# Altium schematic symbol library Schlib1.SchLib: 25 symbols
Pins are listed as number, name and electrical type; pins without a type are passive.

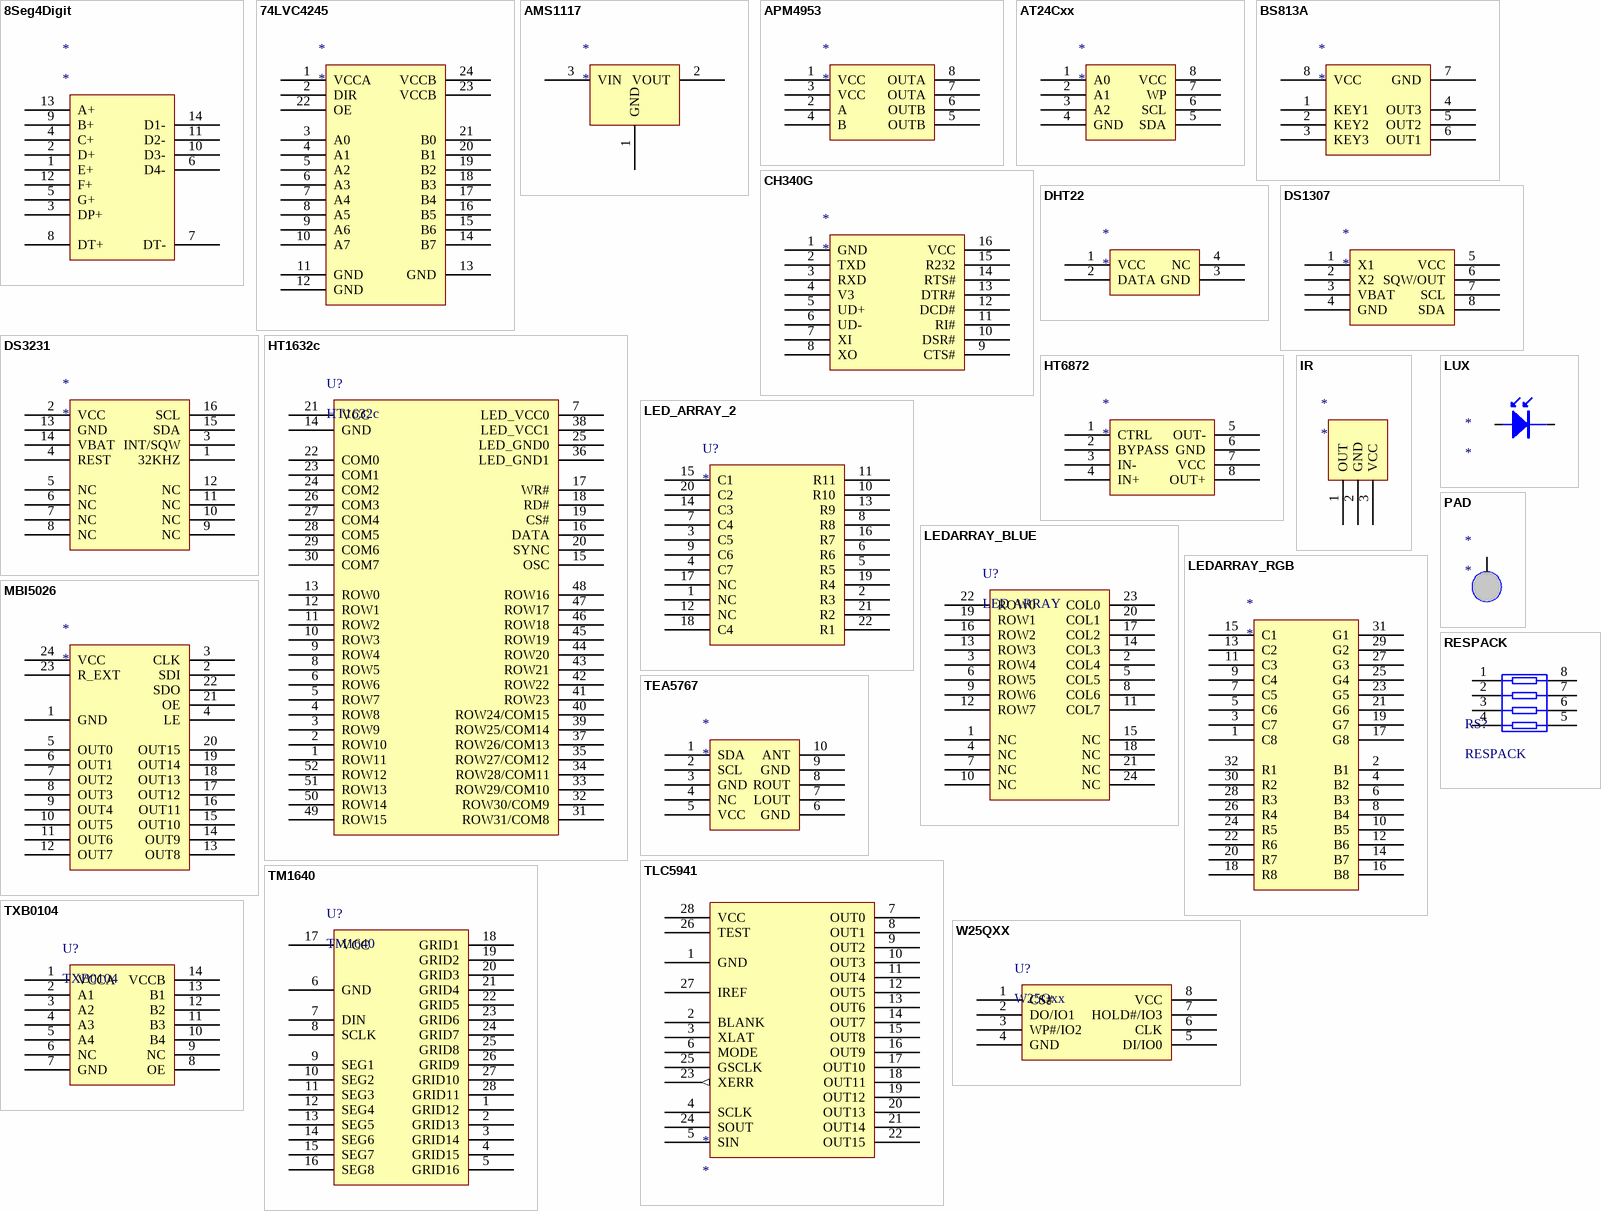
[diagram p0: symbols 8Seg4Digit to W25QXX]

## 8Seg4Digit
designator *
pins: 1 E+, 2 D+, 3 DP+, 4 C+, 5 G+, 6 D4-, 7 DT-, 8 DT+, 9 B+, 10 D3-, 11 D2-, 12 F+, 13 A+, 14 D1-

## 74LVC4245
designator *
pins: 1 VCCA, 2 DIR, 3 A0, 4 A1, 5 A2, 6 A3, 7 A4, 8 A5, 9 A6, 10 A7, 11 GND, 12 GND, 13 GND, 14 B7, 15 B6, 16 B5, 17 B4, 18 B3, 19 B2, 20 B1, 21 B0, 22 OE, 23 VCCB, 24 VCCB

## AMS1117
designator *
pins: 1 GND, 2 VOUT, 3 VIN

## APM4953
designator *
pins: 1 VCC, 2 A, 3 VCC, 4 B, 5 OUTB, 6 OUTB, 7 OUTA, 8 OUTA

## AT24Cxx
designator *
pins: 1 A0, 2 A1, 3 A2, 4 GND, 5 SDA, 6 SCL, 7 WP, 8 VCC

## BS813A
designator *
pins: 1 KEY1, 2 KEY2, 3 KEY3, 4 OUT3, 5 OUT2, 6 OUT1, 7 GND, 8 VCC

## CH340G
designator *
pins: 1 GND, 2 TXD, 3 RXD, 4 V3, 5 UD+, 6 UD-, 7 XI, 8 XO, 9 CTS#, 10 DSR#, 11 RI#, 12 DCD#, 13 DTR#, 14 RTS#, 15 R232, 16 VCC

## DHT22
designator *
pins: 1 VCC, 2 DATA, 3 GND, 4 NC

## DS1307
designator *
pins: 1 X1, 2 X2, 3 VBAT, 4 GND, 5 VCC, 6 SQW/OUT, 7 SCL, 8 SDA

## DS3231
designator *
pins: 1 32KHZ, 2 VCC, 3 INT/SQW, 4 REST, 5 NC, 6 NC, 7 NC, 8 NC, 9 NC, 10 NC, 11 NC, 12 NC, 13 GND, 14 VBAT, 15 SDA, 16 SCL

## HT1632c
designator U?
pins: 1 ROW11, 2 ROW10, 3 ROW9, 4 ROW8, 5 ROW7, 6 ROW6, 7 LED_VCC0, 8 ROW5, 9 ROW4, 10 ROW3, 11 ROW2, 12 ROW1, 13 ROW0, 14 GND, 15 OSC, 16 DATA, 17 WR#, 18 RD#, 19 CS#, 20 SYNC, 21 VCC, 22 COM0, 23 COM1, 24 COM2, 25 LED_GND0, 26 COM3, 27 COM4, 28 COM5, 29 COM6, 30 COM7, 31 ROW31/COM8, 32 ROW30/COM9, 33 ROW29/COM10, 34 ROW28/COM11, 35 ROW27/COM12, 36 LED_GND1, 37 ROW26/COM13, 38 LED_VCC1, 39 ROW25/COM14, 40 ROW24/COM15, 41 ROW23, 42 ROW22, 43 ROW21, 44 ROW20, 45 ROW19, 46 ROW18, 47 ROW17, 48 ROW16, 49 ROW15, 50 ROW14, 51 ROW13, 52 ROW12

## HT6872
designator *
pins: 1 CTRL, 2 BYPASS, 3 IN-, 4 IN+, 5 OUT-, 6 GND, 7 VCC, 8 OUT+

## IR
designator *
pins: 1 OUT, 2 GND, 3 VCC

## LED_ARRAY_2
designator U?
白色7x11共阳点阵
pins: 1 NC, 2 R3, 3 C5, 4 C7, 5 R5, 6 R6, 7 C4, 8 R8, 9 C6, 10 R10, 11 R11, 12 NC, 13 R9, 14 C3, 15 C1, 16 R7, 17 NC, 18 C4, 19 R4, 20 C2, 21 R2, 22 R1

## LEDARRAY_BLUE
designator U?, comment LED ARRAY
pins: 1 NC, 2 COL4, 3 ROW4, 4 NC, 5 COL5, 6 ROW5, 7 NC, 8 COL6, 9 ROW6, 10 NC, 11 COL7, 12 ROW7, 13 ROW3, 14 COL3, 15 NC, 16 ROW2, 17 COL2, 18 NC, 19 ROW1, 20 COL1, 21 NC, 22 ROW0, 23 COL0, 24 NC

## LEDARRAY_RGB
designator *
pins: 1 C8, 2 B1, 3 C7, 4 B2, 5 C6, 6 B3, 7 C5, 8 B4, 9 C4, 10 B5, 11 C3, 12 B6, 13 C2, 14 B7, 15 C1, 16 B8, 17 G8, 18 R8, 19 G7, 20 R7, 21 G6, 22 R6, 23 G5, 24 R5, 25 G4, 26 R4, 27 G3, 28 R3, 29 G2, 30 R2, 31 G1, 32 R1

## LUX
designator *
pins: 1, 2

## MBI5026
designator *
pins: 1 GND, 2 SDI, 3 CLK, 4 LE, 5 OUT0, 6 OUT1, 7 OUT2, 8 OUT3, 9 OUT4, 10 OUT5, 11 OUT6, 12 OUT7, 13 OUT8, 14 OUT9, 15 OUT10, 16 OUT11, 17 OUT12, 18 OUT13, 19 OUT14, 20 OUT15, 21 OE, 22 SDO, 23 R_EXT, 24 VCC

## PAD
designator *
pins: 1 T1

## RESPACK
designator RS?
pins: 1, 2, 3, 4, 5, 6, 7, 8

## TEA5767
designator *
pins: 1 SDA, 2 SCL, 3 GND, 4 NC, 5 VCC, 6 GND, 7 LOUT, 8 ROUT, 9 GND, 10 ANT

## TLC5941
designator *
pins: 1 GND, 2 BLANK, 3 XLAT, 4 SCLK, 5 SIN, 6 MODE, 7 OUT0, 8 OUT1, 9 OUT2, 10 OUT3, 11 OUT4, 12 OUT5, 13 OUT6, 14 OUT7, 15 OUT8, 16 OUT9, 17 OUT10, 18 OUT11, 19 OUT12, 20 OUT13, 21 OUT14, 22 OUT15, 23 XERR (out), 24 SOUT, 25 GSCLK, 26 TEST, 27 IREF, 28 VCC, 29 GND hidden

## TM1640
designator U?
8 段×16 位LED驱动芯片
pins: 1 GRID12, 2 GRID13, 3 GRID14, 4 GRID15, 5 GRID16, 6 GND, 7 DIN, 8 SCLK, 9 SEG1, 10 SEG2, 11 SEG3, 12 SEG4, 13 SEG5, 14 SEG6, 15 SEG7, 16 SEG8, 17 VCC, 18 GRID1, 19 GRID2, 20 GRID3, 21 GRID4, 22 GRID5, 23 GRID6, 24 GRID7, 25 GRID8, 26 GRID9, 27 GRID10, 28 GRID11

## TXB0104
designator U?
pins: 1 VCCA, 2 A1, 3 A2, 4 A3, 5 A4, 6 NC, 7 GND, 8 OE, 9 NC, 10 B4, 11 B3, 12 B2, 13 B1, 14 VCCB

## W25QXX
designator U?, comment W25Qxx
pins: 1 CS#, 2 DO/IO1, 3 WP#/IO2, 4 GND, 5 DI/IO0, 6 CLK, 7 HOLD#/IO3, 8 VCC